# Altium footprint library IntegradedChips.PcbLib: 75 footprints (part 1 of 5)
Each footprint in its own frame and in the unit in brackets; x right, y up, seen from the top. Pads: shape width x height; smd on the part's side, far side on the other; paste and mask are expansions set on the pad; w line width, h text height; cw(c..) or ccw(c..) is an arc to the next point about the centre after c.
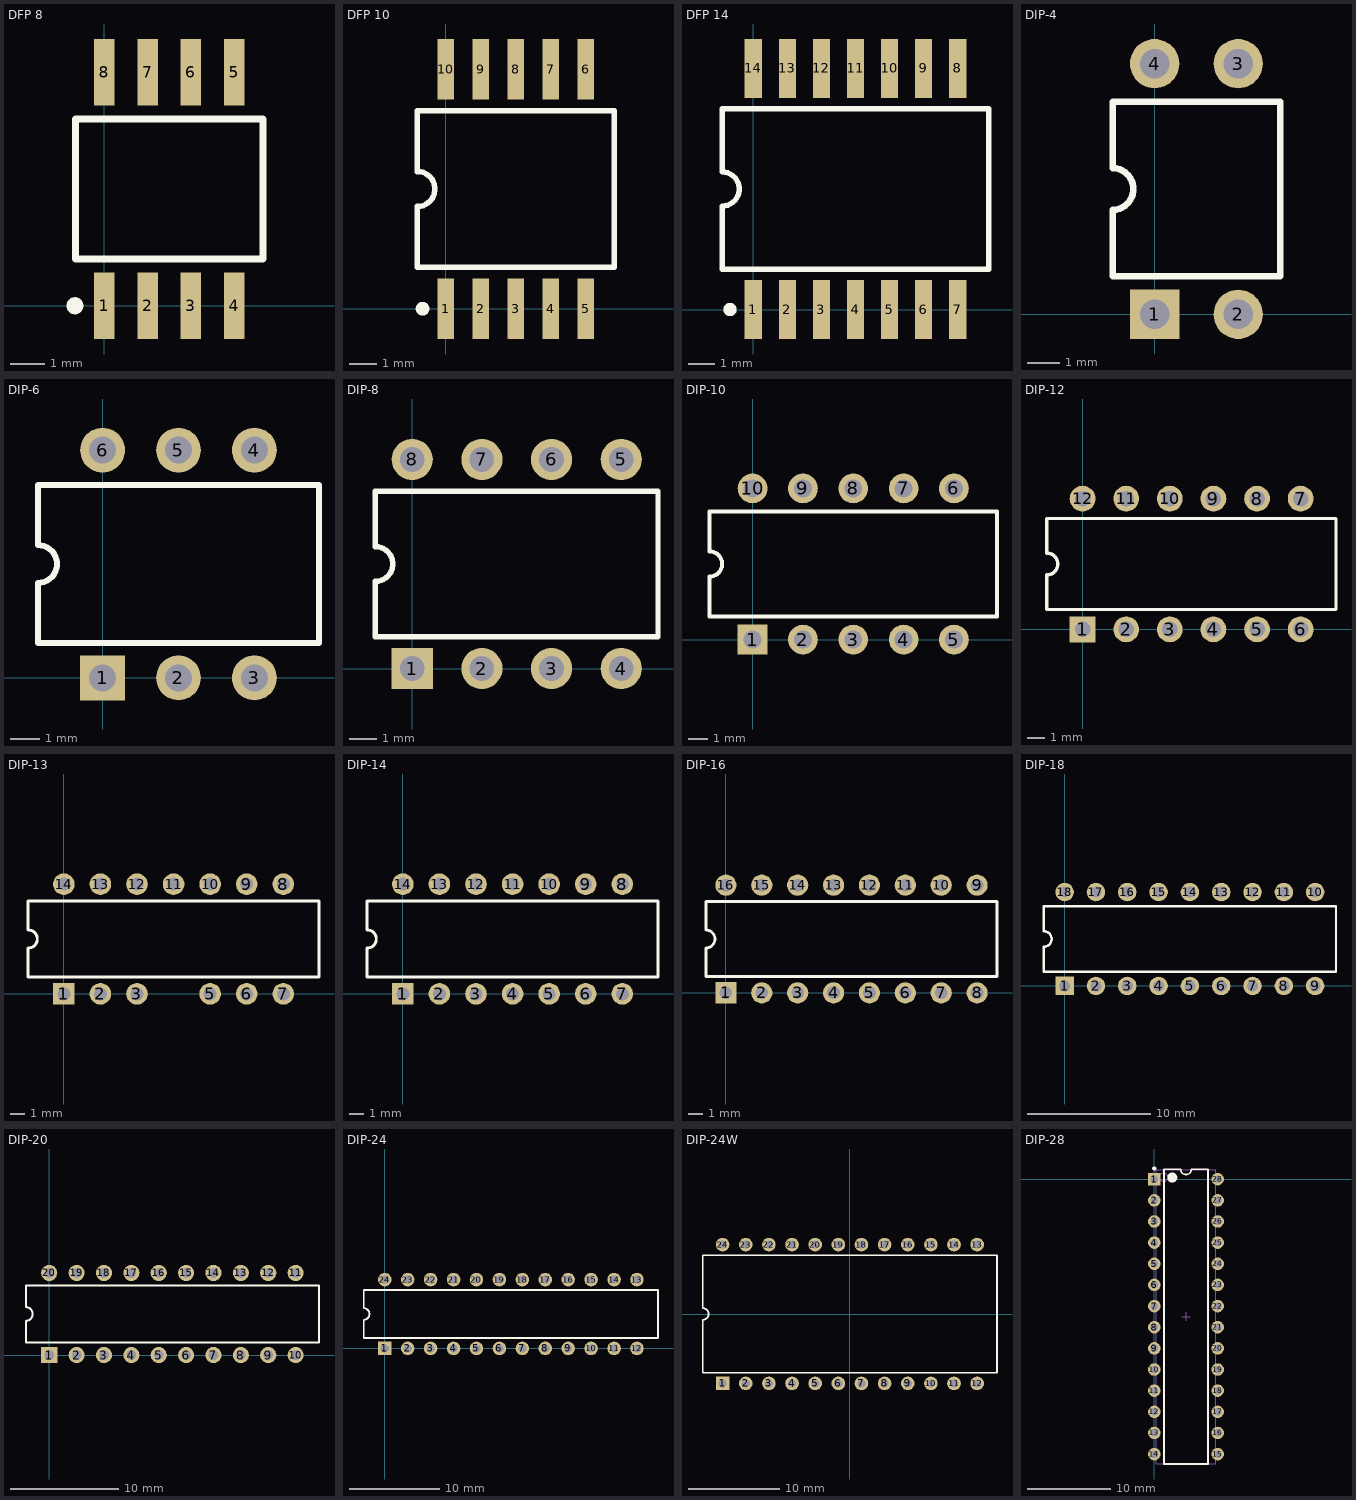
[diagram p0: the footprints below, top view; thin cyan lines are the x and y axes]

## DFP 8 [mm]
pads (8):
  rect 0.6x1.95 smd: 1(0,0) 2(1.27,0) 3(2.54,0) 4(3.81,0) 5(3.81,6.85) 6(2.54,6.85) 7(1.27,6.85) 8(0,6.85)
Top Overlay:
  circle w0.25: c-0.86,0 r0.125
  lines w0.2: -0.845,1.375 4.655,1.375 4.655,5.475 -0.845,5.475 -0.845,2.742 -0.845,1.375
3D body: height 3, standoff 0.5, extent -0.844,1.376 4.654,5.474

## DFP 10 [mm] "DFP; 10 Leads; Body 7.1 x 6.4 mm (LxW max); Pitch 1.27 mm"
height 2.03
pads (10):
  rect 0.6x2.2 smd: 1(0,0) 2(1.27,0) 3(2.54,0) 4(3.81,0) 5(5.08,0) 6(5.08,8.7) 7(3.81,8.7) 8(2.54,8.7) 9(1.27,8.7) 10(0,8.7)
Top Overlay:
  circle w0.25: c-0.85,0 r0.125
  lines w0.2: -1.035,1.5 -1.035,3.715 ccw(c-1.035,4.35) -1.035,4.985 -1.035,7.2 6.115,7.2 6.115,1.5 -1.035,1.5
3D body: height 2.03, standoff 0, extent -1.036,1.499 6.116,7.201

## DFP 14 [mm] "DFP; 14 Leads; Body 9.9 x 6.6 mm (LxW max); Pitch 1.27 mm"
height 2.03
pads (14):
  rect 0.65x2.2 smd: 1(0,0) 2(1.27,0) 3(2.54,0) 4(3.81,0) 5(5.08,0) 6(6.35,0) 7(7.62,0) 8(7.62,9) 9(6.35,9) 10(5.08,9) 11(3.81,9) 12(2.54,9) 13(1.27,9) 14(0,9)
Top Overlay:
  circle w0.25: c-0.875,0 r0.125
  lines w0.2: -1.165,1.5 8.785,1.5 8.785,7.5 -1.165,7.5 -1.165,5.135 cw(c-1.165,4.5) -1.165,3.865 -1.165,1.5
3D body: height 2.03, standoff 0, extent -1.166,1.499 8.786,7.501

## DIP-4 [mm]
pads (4):
  rect 1.5x1.5 hole 0.9: 1(0,0)
  round 1.5 hole 0.9: 2(2.54,0) 3(2.54,7.62) 4(0,7.62)
Top Overlay:
  lines w0.2: -1.28,1.16 3.82,1.16 3.82,6.46 -1.28,6.46 -1.28,4.445 cw(c-1.28,3.81) -1.28,3.175 -1.28,1.16
3D body: height 4, standoff 1, extent -1.281,1.159 3.821,6.461

## DIP-6 [mm]
pads (6):
  rect 1.5x1.5 hole 0.9: 1(0,0)
  round 1.5 hole 0.9: 2(2.54,0) 3(5.08,0) 4(5.08,7.62) 5(2.54,7.62) 6(0,7.62)
Top Overlay:
  lines w0.2: -2.16,1.16 7.24,1.16 7.24,6.46 -2.16,6.46 -2.16,4.445 cw(c-2.16,3.81) -2.16,3.175 -2.16,1.16
3D body: height 4, standoff 0.5, extent -2.161,1.159 7.24,6.461

## DIP-8 [mm]
pads (8):
  rect 1.5x1.5 hole 0.9: 1(0,0)
  round 1.5 hole 0.9: 2(2.54,0) 3(5.08,0) 4(7.62,0) 5(7.62,7.62) 6(5.08,7.62) 7(2.54,7.62) 8(0,7.62)
Top Overlay:
  lines w0.2: -1.34,1.16 8.96,1.16 8.96,6.46 -1.34,6.46 -1.34,4.445 cw(c-1.34,3.81) -1.34,3.175 -1.34,1.16
3D body: height 3.8, standoff -3.18, extent -0.825,-0.223 8.445,7.843

## DIP-10 [mm]
pads (10):
  rect 1.5x1.5 hole 0.9: 1(0,0)
  round 1.5 hole 0.9: 2(2.54,0) 3(5.08,0) 4(7.62,0) 5(10.16,0) 6(10.16,7.62) 7(7.62,7.62) 8(5.08,7.62) 9(2.54,7.62) 10(0,7.62)
Top Overlay:
  lines w0.2: -2.17,1.16 12.33,1.16 12.33,6.46 -2.17,6.46 -2.17,4.445 cw(c-2.17,3.81) -2.17,3.175 -2.17,1.16

## DIP-12 [mm]
pads (12):
  rect 1.5x1.5 hole 0.9: 1(0,0)
  round 1.5 hole 0.9: 2(2.54,0) 3(5.08,0) 4(7.62,0) 5(10.16,0) 6(12.7,0) 7(12.7,7.62) 8(10.16,7.62) 9(7.62,7.62) 10(5.08,7.62) 11(2.54,7.62) 12(0,7.62)
Top Overlay:
  lines w0.2: -2.08,1.16 -2.08,3.175 ccw(c-2.08,3.81) -2.08,4.445 -2.08,6.46 14.76,6.46 14.76,1.16 -2.08,1.16

## DIP-13 [mm]
pads (13):
  rect 1.5x1.5 hole 0.9: 1(0,0)
  round 1.5 hole 0.9: 2(2.54,0) 3(5.08,0) 5(10.16,0) 6(12.7,0) 7(15.24,0) 8(15.24,7.62) 9(12.7,7.62) 10(10.16,7.62) 11(7.62,7.62) 12(5.08,7.62) 13(2.54,7.62) 14(0,7.62)
Top Overlay:
  lines w0.2: -2.48,1.16 17.72,1.16 17.72,6.46 -2.48,6.46 -2.48,4.445 cw(c-2.48,3.81) -2.48,3.175 -2.48,1.16

## DIP-14 [mm]
pads (14):
  rect 1.5x1.5 hole 0.9: 1(0,0)
  round 1.5 hole 0.9: 2(2.54,0) 3(5.08,0) 4(7.62,0) 5(10.16,0) 6(12.7,0) 7(15.24,0) 8(15.24,7.62) 9(12.7,7.62) 10(10.16,7.62) 11(7.62,7.62) 12(5.08,7.62) 13(2.54,7.62) 14(0,7.62)
Top Overlay:
  lines w0.2: -2.48,1.16 -2.48,3.175 ccw(c-2.48,3.81) -2.48,4.445 -2.48,6.46 17.72,6.46 17.72,1.16 -2.48,1.16
3D body: height 5.5, standoff -2.5, extent -1.27,-0.063 16.51,7.684

## DIP-16 [mm]
pads (16):
  rect 1.5x1.5 hole 0.9: 1(0,0)
  round 1.5 hole 0.9: 2(2.54,0) 3(5.08,0) 4(7.62,0) 5(10.16,0) 6(12.7,0) 7(15.24,0) 8(17.78,0) 9(17.78,7.62) 10(15.24,7.62) 11(12.7,7.62) 12(10.16,7.62) 13(7.62,7.62) 14(5.08,7.62) 15(2.54,7.62) 16(0,7.62)
Top Overlay:
  lines w0.2: -1.41,1.16 -1.41,3.175 ccw(c-1.41,3.81) -1.41,4.445 -1.41,6.46 19.19,6.46 19.19,1.16 -1.41,1.16
3D body: height 5.5, standoff -2.5, extent -1.27,-0.063 19.05,7.684

## DIP-18 [mm]
pads (18):
  rect 1.5x1.5 hole 0.9: 1(0,0)
  round 1.5 hole 0.9: 2(2.54,0) 3(5.08,0) 4(7.62,0) 5(10.16,0) 6(12.7,0) 7(15.24,0) 8(17.78,0) 9(20.32,0) 10(20.32,7.62) 11(17.78,7.62) 12(15.24,7.62) 13(12.7,7.62) 14(10.16,7.62) 15(7.62,7.62) 16(5.08,7.62) 17(2.54,7.62) 18(0,7.62)
Top Overlay:
  lines w0.2: -1.69,1.16 -1.69,3.175 ccw(c-1.69,3.81) -1.69,4.445 -1.69,6.46 22.01,6.46 22.01,1.16 -1.69,1.16

## DIP-20 [mm]
pads (20):
  rect 1.5x1.5 hole 0.9: 1(0,0)
  round 1.5 hole 0.9: 2(2.54,0) 3(5.08,0) 4(7.62,0) 5(10.16,0) 6(12.7,0) 7(15.24,0) 8(17.78,0) 9(20.32,0) 10(22.86,0) 11(22.86,7.62) 12(20.32,7.62) 13(17.78,7.62) 14(15.24,7.62) 15(12.7,7.62) 16(10.16,7.62) 17(7.62,7.62) 18(5.08,7.62) 19(2.54,7.62) 20(0,7.62)
Top Overlay:
  lines w0.2: -2.17,1.16 25.03,1.16 25.03,6.46 -2.17,6.46 -2.17,4.445 cw(c-2.17,3.81) -2.17,3.175 -2.17,1.16
3D body: height 3, standoff 0, extent -2.171,1.159 25.031,6.461

## DIP-24 [mm]
pads (24):
  rect 1.5x1.5 hole 0.9: 1(0,0)
  round 1.5 hole 0.9: 2(2.54,0) 3(5.08,0) 4(7.62,0) 5(10.16,0) 6(12.7,0) 7(15.24,0) 8(17.78,0) 9(20.32,0) 10(22.86,0) 11(25.4,0) 12(27.94,0) 13(27.94,7.62) 14(25.4,7.62) 15(22.86,7.62) 16(20.32,7.62) 17(17.78,7.62) 18(15.24,7.62) 19(12.7,7.62) 20(10.16,7.62) 21(7.62,7.62) 22(5.08,7.62) 23(2.54,7.62) 24(0,7.62)
Top Overlay:
  lines w0.2: -2.33,1.16 30.27,1.16 30.27,6.46 -2.33,6.46 -2.33,4.445 cw(c-2.33,3.81) -2.33,3.175 -2.33,1.16
3D body: height 5.3, standoff -2.7, extent -1.27,-0.063 29.21,7.684

## DIP-24W [mm] "DIP; 24 Leads; Row Spacing 15.24 mm; Pitch 2.54 mm"
height 5.16
pads (24):
  rect 1.5x1.5 hole 0.9: 1(-13.97,-7.62)
  round 1.5 hole 0.9: 2(-11.43,-7.62) 3(-8.89,-7.62) 4(-6.35,-7.62) 5(-3.81,-7.62) 6(-1.27,-7.62) 7(1.27,-7.62) 8(3.81,-7.62) 9(6.35,-7.62) 10(8.89,-7.62) 11(11.43,-7.62) 12(13.97,-7.62) 13(13.97,7.62) 14(11.43,7.62) 15(8.89,7.62) 16(6.35,7.62) 17(3.81,7.62) 18(1.27,7.62) 19(-1.27,7.62) 20(-3.81,7.62) 21(-6.35,7.62) 22(-8.89,7.62) 23(-11.43,7.62) 24(-13.97,7.62)
Top Overlay:
  lines w0.2: -16.15,-6.45 16.15,-6.45 16.15,6.45 -16.15,6.45 -16.15,0.635 cw(c-16.15,0) -16.15,-0.635 -16.15,-6.45
3D body: height 5.3, standoff -2.35, extent -15.24,-7.683 15.24,7.684

## DIP-28 [mm] "DIP, 28-Leads, Row Spacing 7.62mm, Pitch 2.54mm, Body 34.67x7.3mm"
height 4.58
pads (28):
  rect 1.5x1.5 hole 0.9: 1(0,0)
  round 1.5 hole 0.9: 2(0,-2.54) 3(0,-5.08) 4(0,-7.62) 5(0,-10.16) 6(0,-12.7) 7(0,-15.24) 8(0,-17.78) 9(0,-20.32) 10(0,-22.86) 11(0,-25.4) 12(0,-27.94) 13(0,-30.48) 14(0,-33.02) 15(7.62,-33.02) 16(7.62,-30.48) 17(7.62,-27.94) 18(7.62,-25.4) 19(7.62,-22.86) 20(7.62,-20.32) 21(7.62,-17.78) 22(7.62,-15.24) 23(7.62,-12.7) 24(7.62,-10.16) 25(7.62,-7.62) 26(7.62,-5.08) 27(7.62,-2.54) 28(7.62,0)
Top Overlay:
  circle w0.25: c0,1.3 r0.125
  circle w0.6: c2.16,0.19 r0.3
  lines w0.2: 1.16,-34.21 1.16,1.19 3.175,1.19 ccw(c3.81,1.19) 4.445,1.19 6.46,1.19 6.46,-34.21 1.16,-34.21
Mechanical 13:
  circle w0.1: c1.11,0.24 r0.5
  lines w0.1: 0.21,-34.16 0.21,1.14 7.41,1.14 7.41,-34.16 0.21,-34.16
Mechanical 15:
  lines w0.1: 3.31,-16.51 4.31,-16.51 ; 3.81,-17.01 3.81,-16.01
3D body: height 4.58, standoff 0, extent 0.21,-34.16 7.41,1.14